# Altium schematic symbol library Inductors.SchLib: 2 symbols
Pins are listed as number, name and electrical type; pins without a type are passive.

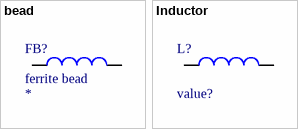
[diagram p0: symbols bead to Inductor]

## bead
designator FB?, comment ferrite bead
bead
footprint LC-0603_L
footprint LC-0805_L
pins: 1, 2

## Inductor
designator L?, comment value?
Inductor; value: value?
footprint INDUCTOR-7-7
footprint LC-0603_L
footprint INDUCTOR-8040
footprint INDUCTOR-252012
pins: 1, 2